# Altium footprint library P783F-Q24-S12-S.PcbLib: 1 footprints
Each footprint in its own frame and in the unit in brackets; x right, y up, seen from the top. Pads: shape width x height; smd on the part's side, far side on the other; paste and mask are expansions set on the pad; w line width, h text height; cw(c..) or ccw(c..) is an arc to the next point about the centre after c.
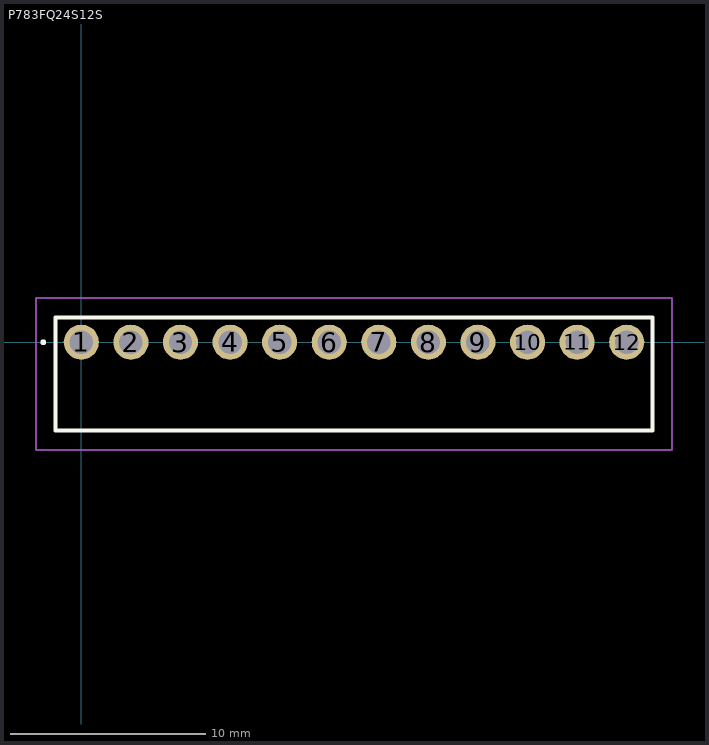
[diagram p0: the footprint, top view; thin cyan lines are the x and y axes]

## P783FQ24S12S [mm]
pads (12):
  round 1.8 hole 1.2: 1(0,0) 2(2.54,0) 3(5.08,0) 4(7.62,0) 5(10.16,0) 6(12.7,0) 7(15.24,0) 8(17.78,0) 9(20.32,0) 10(22.86,0) 11(25.4,0) 12(27.94,0)
Top Overlay:
  lines w0.2: -2,0 cw(c-1.95,0) -1.9,0 ; -2,0 ccw(c-1.95,0) -1.9,0 ; -2,0 cw(c-1.95,0) -1.9,0 ; -1.33,-4.53 -1.33,1.27 29.27,1.27 29.27,-4.53 -1.33,-4.53
Mechanical 13:
  lines w0.1: -1.33,-4.53 -1.33,1.27 29.27,1.27 29.27,-4.53 -1.33,-4.53
Mechanical 15:
  lines w0.1: -2.33,-5.53 -2.33,2.27 30.27,2.27 30.27,-5.53 -2.33,-5.53
3D body "P783F-Q24-S12-S.stp": height 13.1, standoff -5, extent -1.33,-4.53 29.27,1.27